# Altium integrated library Altium_WE-XTAL (rev25b).IntLib: 324 symbols (part 3 of 6)
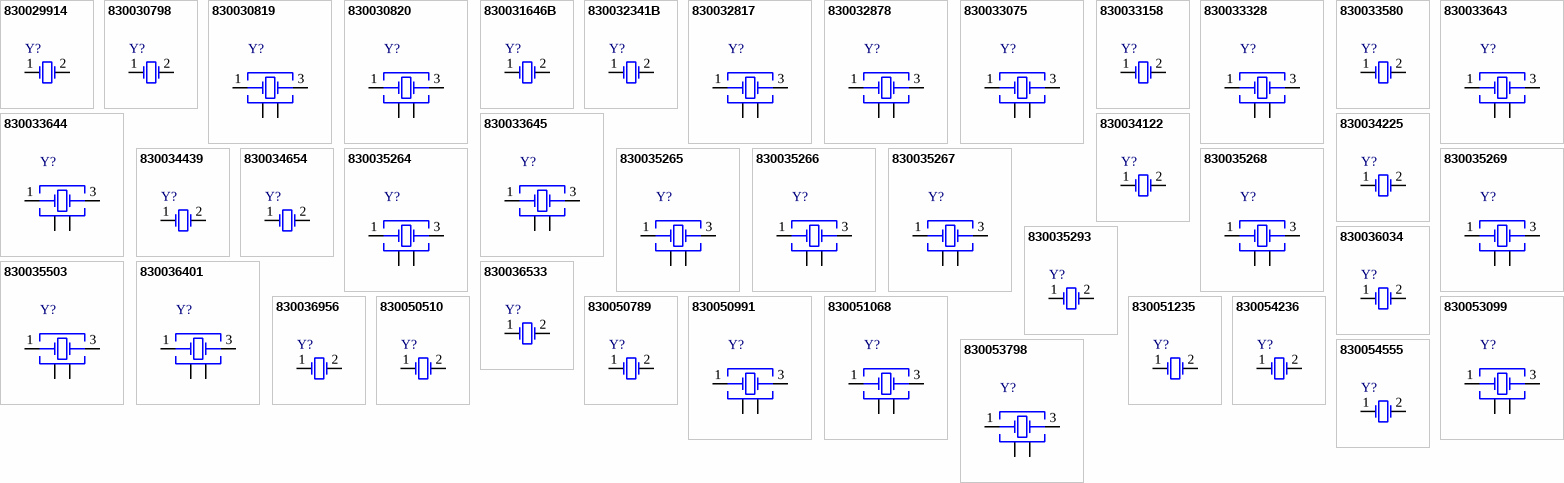
[diagram p10: symbols 830029914 to 830054555]

## 830029914
designator Y?, comment 8MHz  (value not drawn)
WE-XTAL Quartz Crystal, HC49/4HSMX, 8MHz, +/-30ppm; Manufacturer Part Number: 830029914; Manufacturer: Wurth Elektronik; Frequency Stability: 50ppm; Load Capacitance: 16pF; Category: Crystals; Match Code: WE-XTAL; ComponentLink1Description: Website Link; ComponentLink1URL: https://www.we-online.com/redexpert/article/830029914?ad; ComponentLink2Description: Datasheet Link; ComponentLink2URL: https://www.we-online.com/redexpert/spec/830029914?ad; Mount: Surface Mount; Min Operating Temperature: -40°C; Max Operating Temperature: 85°C; Packaging: Tape and Reel; Case/Size Code: HC49/4HSMX; Length: 12.4mm; Width: 4.7mm; Height: 4.5mm; Application: Processor, UART; Frequency: 8MHz; Frequency Tolerance: +/-30ppm
footprint WE-XTAL_HC49/4HSMX
pins: 1 OSC1, 2 OSC2

## 830030798
designator Y?, comment 3.6864MHz  (value not drawn)
WE-XTAL Quartz Crystal, HC49/4HSMX, 3.6864MHz, +/-30ppm; Manufacturer Part Number: 830030798; Manufacturer: Wurth Elektronik; Frequency Stability: 50ppm; Load Capacitance: 16pF; Category: Crystals; Match Code: WE-XTAL; ComponentLink1Description: Website Link; ComponentLink1URL: https://www.we-online.com/redexpert/article/830030798?ad; ComponentLink2Description: Datasheet Link; ComponentLink2URL: https://www.we-online.com/redexpert/spec/830030798?ad; Mount: Surface Mount; Min Operating Temperature: -40°C; Max Operating Temperature: 85°C; Packaging: Tape and Reel; Case/Size Code: HC49/4HSMX; Length: 12.4mm; Width: 4.7mm; Height: 4.5mm; Application: Processor, UART; Frequency: 3.6864MHz; Frequency Tolerance: +/-30ppm
footprint WE-XTAL_HC49/4HSMX
pins: 1 OSC1, 2 OSC2

## 830030819
designator Y?, comment 16MHz  (value not drawn)
WE-XTAL Quartz Crystal, CFPX-104, 16MHz, +/-50ppm; Manufacturer Part Number: 830030819; Manufacturer: Wurth Elektronik; Frequency Stability: 50ppm; Load Capacitance: 18pF; Category: Crystals; Match Code: WE-XTAL; ComponentLink1Description: Website Link; ComponentLink1URL: https://www.we-online.com/redexpert/article/830030819?ad; ComponentLink2Description: Datasheet Link; ComponentLink2URL: https://www.we-online.com/redexpert/spec/830030819?ad; Mount: Surface Mount; Min Operating Temperature: -10°C; Max Operating Temperature: 60°C; Packaging: Tape and Reel; Case/Size Code: CFPX-104; Length: 5mm; Width: 3.2mm; Height: 1mm; Application: Processor, CAN, Bluetooth; Frequency: 16MHz; Frequency Tolerance: +/-50ppm
footprint WE-XTAL_CFPX-104
pins: 1 Crystal, 2 GND & Lid, 3 Crystal, 4 GND & Lid

## 830030820
designator Y?, comment 30MHz  (value not drawn)
WE-XTAL Quartz Crystal, CFPX-104, 30MHz, +/-50ppm; Manufacturer Part Number: 830030820; Manufacturer: Wurth Elektronik; Frequency Stability: 50ppm; Load Capacitance: 18pF; Category: Crystals; Match Code: WE-XTAL; ComponentLink1Description: Website Link; ComponentLink1URL: https://www.we-online.com/redexpert/article/830030820?ad; ComponentLink2Description: Datasheet Link; ComponentLink2URL: https://www.we-online.com/redexpert/spec/830030820?ad; Mount: Surface Mount; Min Operating Temperature: -10°C; Max Operating Temperature: 60°C; Packaging: Tape and Reel; Case/Size Code: CFPX-104; Length: 5mm; Width: 3.2mm; Height: 1mm; Application: Processor, USB; Frequency: 30MHz; Frequency Tolerance: +/-50ppm
footprint WE-XTAL_CFPX-104
pins: 1 Crystal, 2 GND & Lid, 3 Crystal, 4 GND & Lid

## 830031646B
designator Y?, comment 13MHz  (value not drawn)
WE-XTAL Quartz Crystal, HC49/4H, 13MHz, +/-30ppm; Manufacturer Part Number: 830031646B; Manufacturer: Wurth Elektronik; Frequency Stability: 50ppm; Load Capacitance: 18pF; Category: Crystals; Match Code: WE-XTAL; ComponentLink1Description: Website Link; ComponentLink1URL: https://www.we-online.com/redexpert/article/830031646B?ad; ComponentLink2Description: Datasheet Link; ComponentLink2URL: https://www.we-online.com/redexpert/spec/830031646B?ad; Mount: Through Hole; Min Operating Temperature: -20°C; Max Operating Temperature: 70°C; Packaging: Bulk; Case/Size Code: HC49/4H; Length: 11.35mm; Width: 4.85mm; Height: 4mm; Application: Processor; Frequency: 13MHz; Frequency Tolerance: +/-30ppm
footprint WE-XTAL_HC49/4H
pins: 1 OSC1, 2 OSC2

## 830032341B
designator Y?, comment 10MHz  (value not drawn)
WE-XTAL Quartz Crystal, HC49/4H, 10MHz, +/-30ppm; Manufacturer Part Number: 830032341B; Manufacturer: Wurth Elektronik; Frequency Stability: 50ppm; Load Capacitance: 18pF; Category: Crystals; Match Code: WE-XTAL; ComponentLink1Description: Website Link; ComponentLink1URL: https://www.we-online.com/redexpert/article/830032341B?ad; ComponentLink2Description: Datasheet Link; ComponentLink2URL: https://www.we-online.com/redexpert/spec/830032341B?ad; Mount: Through Hole; Min Operating Temperature: -20°C; Max Operating Temperature: 70°C; Packaging: Bulk; Case/Size Code: HC49/4H; Length: 11.35mm; Width: 4.85mm; Height: 4mm; Application: Processor, Ethernet; Frequency: 10MHz; Frequency Tolerance: +/-30ppm
footprint WE-XTAL_HC49/4H
pins: 1 OSC1, 2 OSC2

## 830032817
designator Y?, comment 24MHz  (value not drawn)
WE-XTAL Quartz Crystal, CFPX-104, 24MHz, +/-50ppm; Manufacturer Part Number: 830032817; Manufacturer: Wurth Elektronik; Frequency Stability: 50ppm; Load Capacitance: 18pF; Category: Crystals; Match Code: WE-XTAL; ComponentLink1Description: Website Link; ComponentLink1URL: https://www.we-online.com/redexpert/article/830032817?ad; ComponentLink2Description: Datasheet Link; ComponentLink2URL: https://www.we-online.com/redexpert/spec/830032817?ad; Mount: Surface Mount; Min Operating Temperature: -10°C; Max Operating Temperature: 60°C; Packaging: Tape and Reel; Case/Size Code: CFPX-104; Length: 5mm; Width: 3.2mm; Height: 1mm; Application: Processor, USB, Bluetooth; Frequency: 24MHz; Frequency Tolerance: +/-50ppm
footprint WE-XTAL_CFPX-104
pins: 1 Crystal, 2 GND & Lid, 3 Crystal, 4 GND & Lid

## 830032878
designator Y?, comment 12MHz  (value not drawn)
WE-XTAL Quartz Crystal, CFPX-104, 12MHz, +/-50ppm; Manufacturer Part Number: 830032878; Manufacturer: Wurth Elektronik; Frequency Stability: 50ppm; Load Capacitance: 18pF; Category: Crystals; Match Code: WE-XTAL; ComponentLink1Description: Website Link; ComponentLink1URL: https://www.we-online.com/redexpert/article/830032878?ad; ComponentLink2Description: Datasheet Link; ComponentLink2URL: https://www.we-online.com/redexpert/spec/830032878?ad; Mount: Surface Mount; Min Operating Temperature: -10°C; Max Operating Temperature: 60°C; Packaging: Tape and Reel; Case/Size Code: CFPX-104; Length: 5mm; Width: 3.2mm; Height: 1mm; Application: Processor, USB, CAN; Frequency: 12MHz; Frequency Tolerance: +/-50ppm
footprint WE-XTAL_CFPX-104
pins: 1 Crystal, 2 GND & Lid, 3 Crystal, 4 GND & Lid

## 830033075
designator Y?, comment 25MHz  (value not drawn)
WE-XTAL Quartz Crystal, CFPX-104, 25MHz, +/-50ppm; Manufacturer Part Number: 830033075; Manufacturer: Wurth Elektronik; Frequency Stability: 50ppm; Load Capacitance: 18pF; Category: Crystals; Match Code: WE-XTAL; ComponentLink1Description: Website Link; ComponentLink1URL: https://www.we-online.com/redexpert/article/830033075?ad; ComponentLink2Description: Datasheet Link; ComponentLink2URL: https://www.we-online.com/redexpert/spec/830033075?ad; Mount: Surface Mount; Min Operating Temperature: -10°C; Max Operating Temperature: 60°C; Packaging: Tape and Reel; Case/Size Code: CFPX-104; Length: 5mm; Width: 3.2mm; Height: 1mm; Application: Processor, USB, 3G/4G/5G, Ethernet, Small Cell, PHY, PCI Express; Frequency: 25MHz; Frequency Tolerance: +/-50ppm
footprint WE-XTAL_CFPX-104
pins: 1 Crystal, 2 GND & Lid, 3 Crystal, 4 GND & Lid

## 830033158
designator Y?, comment 3.6864MHz  (value not drawn)
WE-XTAL Quartz Crystal, HC49/4HSMX, 3.6864MHz, +/-30ppm; Manufacturer Part Number: 830033158; Manufacturer: Wurth Elektronik; Frequency Stability: 50ppm; Load Capacitance: 18pF; Category: Crystals; Match Code: WE-XTAL; ComponentLink1Description: Website Link; ComponentLink1URL: https://www.we-online.com/redexpert/article/830033158?ad; ComponentLink2Description: Datasheet Link; ComponentLink2URL: https://www.we-online.com/redexpert/spec/830033158?ad; Mount: Surface Mount; Min Operating Temperature: -20°C; Max Operating Temperature: 70°C; Packaging: Tape and Reel; Case/Size Code: HC49/4HSMX; Length: 12.4mm; Width: 4.7mm; Height: 4.5mm; Application: Processor, UART; Frequency: 3.6864MHz; Frequency Tolerance: +/-30ppm
footprint WE-XTAL_HC49/4HSMX
pins: 1 OSC1, 2 OSC2

## 830033328
designator Y?, comment 14.7456MHz  (value not drawn)
WE-XTAL Quartz Crystal, CFPX-104, 14.7456MHz, +/-50ppm; Manufacturer Part Number: 830033328; Manufacturer: Wurth Elektronik; Frequency Stability: 50ppm; Load Capacitance: 18pF; Category: Crystals; Match Code: WE-XTAL; ComponentLink1Description: Website Link; ComponentLink1URL: https://www.we-online.com/redexpert/article/830033328?ad; ComponentLink2Description: Datasheet Link; ComponentLink2URL: https://www.we-online.com/redexpert/spec/830033328?ad; Mount: Surface Mount; Min Operating Temperature: -10°C; Max Operating Temperature: 60°C; Packaging: Tape and Reel; Case/Size Code: CFPX-104; Length: 5mm; Width: 3.2mm; Height: 1mm; Application: UART; Frequency: 14.7456MHz; Frequency Tolerance: +/-50ppm
footprint WE-XTAL_CFPX-104
pins: 1 Crystal, 2 GND & Lid, 3 Crystal, 4 GND & Lid

## 830033580
designator Y?, comment 12MHz  (value not drawn)
WE-XTAL Quartz Crystal, HC49/4HSMX, 12MHz, +/-30ppm; Manufacturer Part Number: 830033580; Manufacturer: Wurth Elektronik; Frequency Stability: 50ppm; Load Capacitance: 18pF; Category: Crystals; Match Code: WE-XTAL; ComponentLink1Description: Website Link; ComponentLink1URL: https://www.we-online.com/redexpert/article/830033580?ad; ComponentLink2Description: Datasheet Link; ComponentLink2URL: https://www.we-online.com/redexpert/spec/830033580?ad; Mount: Surface Mount; Min Operating Temperature: -20°C; Max Operating Temperature: 70°C; Packaging: Tape and Reel; Case/Size Code: HC49/4HSMX; Length: 12.4mm; Width: 4.7mm; Height: 4.5mm; Application: Processor, USB, CAN; Frequency: 12MHz; Frequency Tolerance: +/-30ppm
footprint WE-XTAL_HC49/4HSMX
pins: 1 OSC1, 2 OSC2

## 830033643
designator Y?, comment 14.31818MHz  (value not drawn)
WE-XTAL Quartz Crystal, CFPX-104, 14.31818MHz, +/-50ppm; Manufacturer Part Number: 830033643; Manufacturer: Wurth Elektronik; Frequency Stability: 50ppm; Load Capacitance: 18pF; Category: Crystals; Match Code: WE-XTAL; ComponentLink1Description: Website Link; ComponentLink1URL: https://www.we-online.com/redexpert/article/830033643?ad; ComponentLink2Description: Datasheet Link; ComponentLink2URL: https://www.we-online.com/redexpert/spec/830033643?ad; Mount: Surface Mount; Min Operating Temperature: -10°C; Max Operating Temperature: 60°C; Packaging: Tape and Reel; Case/Size Code: CFPX-104; Length: 5mm; Width: 3.2mm; Height: 1mm; Application: Processor; Frequency: 14.31818MHz; Frequency Tolerance: +/-50ppm
footprint WE-XTAL_CFPX-104
pins: 1 Crystal, 2 GND & Lid, 3 Crystal, 4 GND & Lid

## 830033644
designator Y?, comment 24.576MHz  (value not drawn)
WE-XTAL Quartz Crystal, CFPX-104, 24.576MHz, +/-50ppm; Manufacturer Part Number: 830033644; Manufacturer: Wurth Elektronik; Frequency Stability: 50ppm; Load Capacitance: 18pF; Category: Crystals; Match Code: WE-XTAL; ComponentLink1Description: Website Link; ComponentLink1URL: https://www.we-online.com/redexpert/article/830033644?ad; ComponentLink2Description: Datasheet Link; ComponentLink2URL: https://www.we-online.com/redexpert/spec/830033644?ad; Mount: Surface Mount; Min Operating Temperature: -10°C; Max Operating Temperature: 60°C; Packaging: Tape and Reel; Case/Size Code: CFPX-104; Length: 5mm; Width: 3.2mm; Height: 1mm; Application: UART, Audio; Frequency: 24.576MHz; Frequency Tolerance: +/-50ppm
footprint WE-XTAL_CFPX-104
pins: 1 Crystal, 2 GND & Lid, 3 Crystal, 4 GND & Lid

## 830033645
designator Y?, comment 40MHz  (value not drawn)
WE-XTAL Quartz Crystal, CFPX-104, 40MHz, +/-50ppm; Manufacturer Part Number: 830033645; Manufacturer: Wurth Elektronik; Frequency Stability: 50ppm; Load Capacitance: 18pF; Category: Crystals; Match Code: WE-XTAL; ComponentLink1Description: Website Link; ComponentLink1URL: https://www.we-online.com/redexpert/article/830033645?ad; ComponentLink2Description: Datasheet Link; ComponentLink2URL: https://www.we-online.com/redexpert/spec/830033645?ad; Mount: Surface Mount; Min Operating Temperature: -10°C; Max Operating Temperature: 60°C; Packaging: Tape and Reel; Case/Size Code: CFPX-104; Length: 5mm; Width: 3.2mm; Height: 1mm; Application: Processor, USB, 3G/4G/5G, CAN, Wi-Fi; Frequency: 40MHz; Frequency Tolerance: +/-50ppm
footprint WE-XTAL_CFPX-104
pins: 1 Crystal, 2 GND & Lid, 3 Crystal, 4 GND & Lid

## 830034122
designator Y?, comment 16MHz  (value not drawn)
WE-XTAL Quartz Crystal, HC49/4HSMX, 16MHz, +/-20ppm; Manufacturer Part Number: 830034122; Manufacturer: Wurth Elektronik; Frequency Stability: 20ppm; Load Capacitance: 12pF; Category: Crystals; Match Code: WE-XTAL; ComponentLink1Description: Website Link; ComponentLink1URL: https://www.we-online.com/redexpert/article/830034122?ad; ComponentLink2Description: Datasheet Link; ComponentLink2URL: https://www.we-online.com/redexpert/spec/830034122?ad; Mount: Surface Mount; Min Operating Temperature: -20°C; Max Operating Temperature: 70°C; Packaging: Tape and Reel; Case/Size Code: HC49/4HSMX; Length: 12.4mm; Width: 4.7mm; Height: 4.5mm; Application: Processor, CAN, Bluetooth; Frequency: 16MHz; Frequency Tolerance: +/-20ppm
footprint WE-XTAL_HC49/4HSMX
pins: 1 OSC1, 2 OSC2

## 830034225
designator Y?, comment 20MHz  (value not drawn)
WE-XTAL Quartz Crystal, HC49/4HSMX, 20MHz, +/-50ppm; Manufacturer Part Number: 830034225; Manufacturer: Wurth Elektronik; Frequency Stability: 50ppm; Load Capacitance: 16pF; Category: Crystals; Match Code: WE-XTAL; ComponentLink1Description: Website Link; ComponentLink1URL: https://www.we-online.com/redexpert/article/830034225?ad; ComponentLink2Description: Datasheet Link; ComponentLink2URL: https://www.we-online.com/redexpert/spec/830034225?ad; Mount: Surface Mount; Min Operating Temperature: -30°C; Max Operating Temperature: 80°C; Packaging: Tape and Reel; Case/Size Code: HC49/4HSMX; Length: 12.4mm; Width: 4.7mm; Height: 4.5mm; Application: Processor, CAN, USB, Ethernet, Wi-Fi; Frequency: 20MHz; Frequency Tolerance: +/-50ppm
footprint WE-XTAL_HC49/4HSMX
pins: 1 OSC1, 2 OSC2

## 830034439
designator Y?, comment 4.9152MHz  (value not drawn)
WE-XTAL Quartz Crystal, HC49/4HSMX, 4.9152MHz, +/-30ppm; Manufacturer Part Number: 830034439; Manufacturer: Wurth Elektronik; Frequency Stability: 50ppm; Load Capacitance: 16pF; Category: Crystals; Match Code: WE-XTAL; ComponentLink1Description: Website Link; ComponentLink1URL: https://www.we-online.com/redexpert/article/830034439?ad; ComponentLink2Description: Datasheet Link; ComponentLink2URL: https://www.we-online.com/redexpert/spec/830034439?ad; Mount: Surface Mount; Min Operating Temperature: -20°C; Max Operating Temperature: 70°C; Packaging: Tape and Reel; Case/Size Code: HC49/4HSMX; Length: 12.4mm; Width: 4.7mm; Height: 4.5mm; Application: UART; Frequency: 4.9152MHz; Frequency Tolerance: +/-30ppm
footprint WE-XTAL_HC49/4HSMX
pins: 1 OSC1, 2 OSC2

## 830034654
designator Y?, comment 4MHz  (value not drawn)
WE-XTAL Quartz Crystal, HC49/4HSMX, 4MHz, +/-20ppm; Manufacturer Part Number: 830034654; Manufacturer: Wurth Elektronik; Frequency Stability: 50ppm; Load Capacitance: 18pF; Category: Crystals; Match Code: WE-XTAL; ComponentLink1Description: Website Link; ComponentLink1URL: https://www.we-online.com/redexpert/article/830034654?ad; ComponentLink2Description: Datasheet Link; ComponentLink2URL: https://www.we-online.com/redexpert/spec/830034654?ad; Mount: Surface Mount; Min Operating Temperature: -20°C; Max Operating Temperature: 70°C; Packaging: Tape and Reel; Case/Size Code: HC49/4HSMX; Length: 12.4mm; Width: 4.7mm; Height: 4.5mm; Application: CAN, Processor; Frequency: 4MHz; Frequency Tolerance: +/-20ppm
footprint WE-XTAL_HC49/4HSMX
pins: 1 OSC1, 2 OSC2

## 830035264
designator Y?, comment 16MHz  (value not drawn)
WE-XTAL Quartz Crystal, CFPX-180, 16MHz, +/-50ppm; Manufacturer Part Number: 830035264; Manufacturer: Wurth Elektronik; Frequency Stability: 50ppm; Load Capacitance: 16pF; Category: Crystals; Match Code: WE-XTAL; ComponentLink1Description: Website Link; ComponentLink1URL: https://www.we-online.com/redexpert/article/830035264?ad; ComponentLink2Description: Datasheet Link; ComponentLink2URL: https://www.we-online.com/redexpert/spec/830035264?ad; Mount: Surface Mount; Min Operating Temperature: -10°C; Max Operating Temperature: 60°C; Packaging: Tape and Reel; Case/Size Code: CFPX-180; Length: 3.2mm; Width: 2.5mm; Height: 0.8mm; Application: Processor, CAN, Bluetooth; Frequency: 16MHz; Frequency Tolerance: +/-50ppm
footprint WE-XTAL_CFPX-180
pins: 1 Crystal, 2 GND&Lid, 3 Crystal, 4 GND&Lid

## 830035265
designator Y?, comment 20MHz  (value not drawn)
WE-XTAL Quartz Crystal, CFPX-180, 20MHz, +/-50ppm; Manufacturer Part Number: 830035265; Manufacturer: Wurth Elektronik; Frequency Stability: 50ppm; Load Capacitance: 16pF; Category: Crystals; Match Code: WE-XTAL; ComponentLink1Description: Website Link; ComponentLink1URL: https://www.we-online.com/redexpert/article/830035265?ad; ComponentLink2Description: Datasheet Link; ComponentLink2URL: https://www.we-online.com/redexpert/spec/830035265?ad; Mount: Surface Mount; Min Operating Temperature: -10°C; Max Operating Temperature: 60°C; Packaging: Tape and Reel; Case/Size Code: CFPX-180; Length: 3.2mm; Width: 2.5mm; Height: 0.8mm; Application: Processor, CAN, USB, Ethernet, Wi-Fi; Frequency: 20MHz; Frequency Tolerance: +/-50ppm
footprint WE-XTAL_CFPX-180
pins: 1 Crystal, 2 GND&Lid, 3 Crystal, 4 GND&Lid

## 830035266
designator Y?, comment 24MHz  (value not drawn)
WE-XTAL Quartz Crystal, CFPX-180, 24MHz, +/-50ppm; Manufacturer Part Number: 830035266; Manufacturer: Wurth Elektronik; Frequency Stability: 50ppm; Load Capacitance: 16pF; Category: Crystals; Match Code: WE-XTAL; ComponentLink1Description: Website Link; ComponentLink1URL: https://www.we-online.com/redexpert/article/830035266?ad; ComponentLink2Description: Datasheet Link; ComponentLink2URL: https://www.we-online.com/redexpert/spec/830035266?ad; Mount: Surface Mount; Min Operating Temperature: -10°C; Max Operating Temperature: 60°C; Packaging: Tape and Reel; Case/Size Code: CFPX-180; Length: 3.2mm; Width: 2.5mm; Height: 0.8mm; Application: Processor, USB, Bluetooth; Frequency: 24MHz; Frequency Tolerance: +/-50ppm
footprint WE-XTAL_CFPX-180
pins: 1 Crystal, 2 GND&Lid, 3 Crystal, 4 GND&Lid

## 830035267
designator Y?, comment 24.576MHz  (value not drawn)
WE-XTAL Quartz Crystal, CFPX-180, 24.576MHz, +/-50ppm; Manufacturer Part Number: 830035267; Manufacturer: Wurth Elektronik; Frequency Stability: 50ppm; Load Capacitance: 16pF; Category: Crystals; Match Code: WE-XTAL; ComponentLink1Description: Website Link; ComponentLink1URL: https://www.we-online.com/redexpert/article/830035267?ad; ComponentLink2Description: Datasheet Link; ComponentLink2URL: https://www.we-online.com/redexpert/spec/830035267?ad; Mount: Surface Mount; Min Operating Temperature: -10°C; Max Operating Temperature: 60°C; Packaging: Tape and Reel; Case/Size Code: CFPX-180; Length: 3.2mm; Width: 2.5mm; Height: 0.8mm; Application: UART, Audio; Frequency: 24.576MHz; Frequency Tolerance: +/-50ppm
footprint WE-XTAL_CFPX-180
pins: 1 Crystal, 2 GND&Lid, 3 Crystal, 4 GND&Lid

## 830035268
designator Y?, comment 25MHz  (value not drawn)
WE-XTAL Quartz Crystal, CFPX-180, 25MHz, +/-50ppm; Manufacturer Part Number: 830035268; Manufacturer: Wurth Elektronik; Frequency Stability: 50ppm; Load Capacitance: 16pF; Category: Crystals; Match Code: WE-XTAL; ComponentLink1Description: Website Link; ComponentLink1URL: https://www.we-online.com/redexpert/article/830035268?ad; ComponentLink2Description: Datasheet Link; ComponentLink2URL: https://www.we-online.com/redexpert/spec/830035268?ad; Mount: Surface Mount; Min Operating Temperature: -10°C; Max Operating Temperature: 60°C; Packaging: Tape and Reel; Case/Size Code: CFPX-180; Length: 3.2mm; Width: 2.5mm; Height: 0.8mm; Application: Processor, USB, 3G/4G/5G, Ethernet, Small Cell, PHY, PCI Express; Frequency: 25MHz; Frequency Tolerance: +/-50ppm
footprint WE-XTAL_CFPX-180
pins: 1 Crystal, 2 GND&Lid, 3 Crystal, 4 GND&Lid

## 830035269
designator Y?, comment 30MHz  (value not drawn)
WE-XTAL Quartz Crystal, CFPX-180, 30MHz, +/-50ppm; Manufacturer Part Number: 830035269; Manufacturer: Wurth Elektronik; Frequency Stability: 50ppm; Load Capacitance: 16pF; Category: Crystals; Match Code: WE-XTAL; ComponentLink1Description: Website Link; ComponentLink1URL: https://www.we-online.com/redexpert/article/830035269?ad; ComponentLink2Description: Datasheet Link; ComponentLink2URL: https://www.we-online.com/redexpert/spec/830035269?ad; Mount: Surface Mount; Min Operating Temperature: -10°C; Max Operating Temperature: 60°C; Packaging: Tape and Reel; Case/Size Code: CFPX-180; Length: 3.2mm; Width: 2.5mm; Height: 0.8mm; Application: Processor, USB; Frequency: 30MHz; Frequency Tolerance: +/-50ppm
footprint WE-XTAL_CFPX-180
pins: 1 Crystal, 2 GND&Lid, 3 Crystal, 4 GND&Lid

## 830035293
designator Y?, comment 12MHz  (value not drawn)
WE-XTAL Quartz Crystal, HC49/4HSMX, 12MHz, +/-30ppm; Manufacturer Part Number: 830035293; Manufacturer: Wurth Elektronik; Frequency Stability: 50ppm; Load Capacitance: 16pF; Category: Crystals; Match Code: WE-XTAL; ComponentLink1Description: Website Link; ComponentLink1URL: https://www.we-online.com/redexpert/article/830035293?ad; ComponentLink2Description: Datasheet Link; ComponentLink2URL: https://www.we-online.com/redexpert/spec/830035293?ad; Mount: Surface Mount; Min Operating Temperature: -40°C; Max Operating Temperature: 85°C; Packaging: Tape and Reel; Case/Size Code: HC49/4HSMX; Length: 12.4mm; Width: 4.7mm; Height: 4.5mm; Application: Processor, USB, CAN; Frequency: 12MHz; Frequency Tolerance: +/-30ppm
footprint WE-XTAL_HC49/4HSMX
pins: 1 OSC1, 2 OSC2

## 830035503
designator Y?, comment 16.384MHz  (value not drawn)
WE-XTAL Quartz Crystal, CFPX-180, 16.384MHz, +/-50ppm; Manufacturer Part Number: 830035503; Manufacturer: Wurth Elektronik; Frequency Stability: 50ppm; Load Capacitance: 16pF; Category: Crystals; Match Code: WE-XTAL; ComponentLink1Description: Website Link; ComponentLink1URL: https://www.we-online.com/redexpert/article/830035503?ad; ComponentLink2Description: Datasheet Link; ComponentLink2URL: https://www.we-online.com/redexpert/spec/830035503?ad; Mount: Surface Mount; Min Operating Temperature: -10°C; Max Operating Temperature: 60°C; Packaging: Tape and Reel; Case/Size Code: CFPX-180; Length: 3.2mm; Width: 2.5mm; Height: 0.8mm; Application: Audio, GPS; Frequency: 16.384MHz; Frequency Tolerance: +/-50ppm
footprint WE-XTAL_CFPX-180
pins: 1 Crystal, 2 GND&Lid, 3 Crystal, 4 GND&Lid

## 830036034
designator Y?, comment 16MHz  (value not drawn)
WE-XTAL Quartz Crystal, HC49/4HSMX, 16MHz, +/-30ppm; Manufacturer Part Number: 830036034; Manufacturer: Wurth Elektronik; Frequency Stability: 50ppm; Load Capacitance: 16pF; Category: Crystals; Match Code: WE-XTAL; ComponentLink1Description: Website Link; ComponentLink1URL: https://www.we-online.com/redexpert/article/830036034?ad; ComponentLink2Description: Datasheet Link; ComponentLink2URL: https://www.we-online.com/redexpert/spec/830036034?ad; Mount: Surface Mount; Min Operating Temperature: -40°C; Max Operating Temperature: 85°C; Packaging: Tape and Reel; Case/Size Code: HC49/4HSMX; Length: 12.4mm; Width: 4.7mm; Height: 4.5mm; Application: Processor, CAN, Bluetooth; Frequency: 16MHz; Frequency Tolerance: +/-30ppm
footprint WE-XTAL_HC49/4HSMX
pins: 1 OSC1, 2 OSC2

## 830036401
designator Y?, comment 12MHz  (value not drawn)
WE-XTAL Quartz Crystal, CFPX-104, 12MHz, +/-20ppm; Manufacturer Part Number: 830036401; Manufacturer: Wurth Elektronik; Frequency Stability: 50ppm; Load Capacitance: 18pF; Category: Crystals; Match Code: WE-XTAL; ComponentLink1Description: Website Link; ComponentLink1URL: https://www.we-online.com/redexpert/article/830036401?ad; ComponentLink2Description: Datasheet Link; ComponentLink2URL: https://www.we-online.com/redexpert/spec/830036401?ad; Mount: Surface Mount; Min Operating Temperature: -20°C; Max Operating Temperature: 70°C; Packaging: Tape and Reel; Case/Size Code: CFPX-104; Length: 5mm; Width: 3.2mm; Height: 1mm; Application: Processor, USB, CAN; Frequency: 12MHz; Frequency Tolerance: +/-20ppm
footprint WE-XTAL_CFPX-104
pins: 1 Crystal, 2 GND & Lid, 3 Crystal, 4 GND & Lid

## 830036533
designator Y?, comment 24MHz  (value not drawn)
WE-XTAL Quartz Crystal, HC49/4HSMX, 24MHz, +/-30ppm; Manufacturer Part Number: 830036533; Manufacturer: Wurth Elektronik; Frequency Stability: 50ppm; Load Capacitance: 18pF; Category: Crystals; Match Code: WE-XTAL; ComponentLink1Description: Website Link; ComponentLink1URL: https://www.we-online.com/redexpert/article/830036533?ad; ComponentLink2Description: Datasheet Link; ComponentLink2URL: https://www.we-online.com/redexpert/spec/830036533?ad; Mount: Surface Mount; Min Operating Temperature: -40°C; Max Operating Temperature: 85°C; Packaging: Tape and Reel; Case/Size Code: HC49/4HSMX; Length: 12.4mm; Width: 4.7mm; Height: 4.5mm; Application: Processor, USB, Bluetooth; Frequency: 24MHz; Frequency Tolerance: +/-30ppm
footprint WE-XTAL_HC49/4HSMX
pins: 1 OSC1, 2 OSC2

## 830036956
designator Y?, comment 14.7456MHz  (value not drawn)
WE-XTAL Quartz Crystal, HC49/4HSMX, 14.7456MHz, +/-30ppm; Manufacturer Part Number: 830036956; Manufacturer: Wurth Elektronik; Frequency Stability: 50ppm; Load Capacitance: 16pF; Category: Crystals; Match Code: WE-XTAL; ComponentLink1Description: Website Link; ComponentLink1URL: https://www.we-online.com/redexpert/article/830036956?ad; ComponentLink2Description: Datasheet Link; ComponentLink2URL: https://www.we-online.com/redexpert/spec/830036956?ad; Mount: Surface Mount; Min Operating Temperature: -20°C; Max Operating Temperature: 70°C; Packaging: Tape and Reel; Case/Size Code: HC49/4HSMX; Length: 12.4mm; Width: 4.7mm; Height: 4.5mm; Application: UART; Frequency: 14.7456MHz; Frequency Tolerance: +/-30ppm
footprint WE-XTAL_HC49/4HSMX
pins: 1 OSC1, 2 OSC2

## 830050510
designator Y?, comment 8MHz  (value not drawn)
WE-XTAL Quartz Crystal, HC49/4HSMX, 8MHz, +/-30ppm; Manufacturer Part Number: 830050510; Manufacturer: Wurth Elektronik; Frequency Stability: 50ppm; Load Capacitance: 18pF; Category: Crystals; Match Code: WE-XTAL; ComponentLink1Description: Website Link; ComponentLink1URL: https://www.we-online.com/redexpert/article/830050510?ad; ComponentLink2Description: Datasheet Link; ComponentLink2URL: https://www.we-online.com/redexpert/spec/830050510?ad; Mount: Surface Mount; Min Operating Temperature: -40°C; Max Operating Temperature: 85°C; Packaging: Tape and Reel; Case/Size Code: HC49/4HSMX; Length: 12.4mm; Width: 4.7mm; Height: 4.5mm; Application: Processor, UART; Frequency: 8MHz; Frequency Tolerance: +/-30ppm
footprint WE-XTAL_HC49/4HSMX
pins: 1 OSC1, 2 OSC2

## 830050789
designator Y?, comment 32.768kHz  (value not drawn)
WE-XTAL Watch Crystal, IQXC-25, 32.768kHz, +/-20ppm; Manufacturer Part Number: 830050789; Manufacturer: Wurth Elektronik; Load Capacitance: 12.5pF; Category: Crystals; Match Code: WE-XTAL; ComponentLink1Description: Website Link; ComponentLink1URL: https://www.we-online.com/redexpert/article/830050789?ad; ComponentLink2Description: Datasheet Link; ComponentLink2URL: https://www.we-online.com/redexpert/spec/830050789?ad; Mount: Surface Mount; Min Operating Temperature: -40°C; Max Operating Temperature: 85°C; Packaging: Tape and Reel; Case/Size Code: IQXC-25; Length: 2mm; Width: 1.2mm; Height: 0.6mm; Application: Real Time Clock; Frequency: 32.768kHz; Frequency Tolerance: +/-20ppm
footprint WE-XTAL_IQXC-25
pins: 1 OSC1, 2 OSC2

## 830050991
designator Y?, comment 26MHz  (value not drawn)
WE-XTAL Quartz Crystal, CFPX-218, 26MHz, +/-20ppm; Manufacturer Part Number: 830050991; Manufacturer: Wurth Elektronik; Frequency Stability: 20ppm; Load Capacitance: 10pF; Category: Crystals; Match Code: WE-XTAL; ComponentLink1Description: Website Link; ComponentLink1URL: https://www.we-online.com/redexpert/article/830050991?ad; ComponentLink2Description: Datasheet Link; ComponentLink2URL: https://www.we-online.com/redexpert/spec/830050991?ad; Mount: Surface Mount; Min Operating Temperature: -40°C; Max Operating Temperature: 85°C; Packaging: Tape and Reel; Case/Size Code: CFPX-218; Length: 2.5mm; Width: 2mm; Height: 0.65mm; Application: CAN, Bluetooth, GPS, Small Cell; Frequency: 26MHz; Frequency Tolerance: +/-20ppm
footprint WE-XTAL_CFPX-218
pins: 1 Crystal, 2 GND, 3 Crystal, 4 GND

## 830051068
designator Y?, comment 25MHz  (value not drawn)
WE-XTAL Quartz Crystal, CFPX-180, 25MHz, +/-10ppm; Manufacturer Part Number: 830051068; Manufacturer: Wurth Elektronik; Frequency Stability: 10ppm; Load Capacitance: 9pF; Category: Crystals; Match Code: WE-XTAL; ComponentLink1Description: Website Link; ComponentLink1URL: https://www.we-online.com/redexpert/article/830051068?ad; ComponentLink2Description: Datasheet Link; ComponentLink2URL: https://www.we-online.com/redexpert/spec/830051068?ad; Mount: Surface Mount; Min Operating Temperature: -20°C; Max Operating Temperature: 70°C; Packaging: Tape and Reel; Case/Size Code: CFPX-180; Length: 3.2mm; Width: 2.5mm; Height: 0.8mm; Application: Processor, USB, 3G/4G/5G, Ethernet, Small Cell, PHY, PCI Express; Frequency: 25MHz; Frequency Tolerance: +/-10ppm
footprint WE-XTAL_CFPX-180
pins: 1 Crystal, 2 GND&Lid, 3 Crystal, 4 GND&Lid

## 830051235
designator Y?, comment 16MHz  (value not drawn)
WE-XTAL Quartz Crystal, HC49/4HSMX, 16MHz, +/-30ppm; Manufacturer Part Number: 830051235; Manufacturer: Wurth Elektronik; Frequency Stability: 50ppm; Load Capacitance: 18pF; Category: Crystals; Match Code: WE-XTAL; ComponentLink1Description: Website Link; ComponentLink1URL: https://www.we-online.com/redexpert/article/830051235?ad; ComponentLink2Description: Datasheet Link; ComponentLink2URL: https://www.we-online.com/redexpert/spec/830051235?ad; Mount: Surface Mount; Min Operating Temperature: -40°C; Max Operating Temperature: 85°C; Packaging: Tape and Reel; Case/Size Code: HC49/4HSMX; Length: 12.4mm; Width: 4.7mm; Height: 4.5mm; Application: Processor, CAN, Bluetooth; Frequency: 16MHz; Frequency Tolerance: +/-30ppm
footprint WE-XTAL_HC49/4HSMX
pins: 1 OSC1, 2 OSC2

## 830053099
designator Y?, comment 27.12MHz  (value not drawn)
WE-XTAL Quartz Crystal, CFPX-180, 27.12MHz, +/-10ppm; Manufacturer Part Number: 830053099; Manufacturer: Wurth Elektronik; Frequency Stability: 10ppm; Load Capacitance: 10pF; Category: Crystals; Match Code: WE-XTAL; ComponentLink1Description: Website Link; ComponentLink1URL: https://www.we-online.com/redexpert/article/830053099?ad; ComponentLink2Description: Datasheet Link; ComponentLink2URL: https://www.we-online.com/redexpert/spec/830053099?ad; Mount: Surface Mount; Min Operating Temperature: -20°C; Max Operating Temperature: 70°C; Packaging: Tape and Reel; Case/Size Code: CFPX-180; Length: 3.2mm; Width: 2.5mm; Height: 0.8mm; Application: NFC, RFID; Frequency: 27.12MHz; Frequency Tolerance: +/-10ppm
footprint WE-XTAL_CFPX-180
pins: 1 Crystal, 2 GND&Lid, 3 Crystal, 4 GND&Lid

## 830053798
designator Y?, comment 24MHz  (value not drawn)
WE-XTAL Quartz Crystal, CFPX-104, 24MHz, +/-10ppm; Manufacturer Part Number: 830053798; Manufacturer: Wurth Elektronik; Frequency Stability: 25ppm; Load Capacitance: 18pF; Category: Crystals; Match Code: WE-XTAL; ComponentLink1Description: Website Link; ComponentLink1URL: https://www.we-online.com/redexpert/article/830053798?ad; ComponentLink2Description: Datasheet Link; ComponentLink2URL: https://www.we-online.com/redexpert/spec/830053798?ad; Mount: Surface Mount; Min Operating Temperature: -40°C; Max Operating Temperature: 85°C; Packaging: Tape and Reel; Case/Size Code: CFPX-104; Length: 5mm; Width: 3.2mm; Height: 1mm; Application: Processor, USB, Bluetooth; Frequency: 24MHz; Frequency Tolerance: +/-10ppm
footprint WE-XTAL_CFPX-104
pins: 1 Crystal, 2 GND & Lid, 3 Crystal, 4 GND & Lid

## 830054236
designator Y?, comment 32.768kHz  (value not drawn)
WE-XTAL Watch Crystal, CFPX-217, 32.768kHz, +/-20ppm; Manufacturer Part Number: 830054236; Manufacturer: Wurth Elektronik; Load Capacitance: 6pF; Category: Crystals; Match Code: WE-XTAL; ComponentLink1Description: Website Link; ComponentLink1URL: https://www.we-online.com/redexpert/article/830054236?ad; ComponentLink2Description: Datasheet Link; ComponentLink2URL: https://www.we-online.com/redexpert/spec/830054236?ad; Mount: Surface Mount; Min Operating Temperature: -40°C; Max Operating Temperature: 85°C; Packaging: Tape and Reel; Case/Size Code: CFPX-217; Length: 3.2mm; Width: 1.5mm; Height: 0.9mm; Application: Real Time Clock; Frequency: 32.768kHz; Frequency Tolerance: +/-20ppm
footprint WE-XTAL_CFPX-217
pins: 1 OSC1, 2 OSC2

## 830054555
designator Y?, comment 25MHz  (value not drawn)
WE-XTAL Quartz Crystal, HC49/4HSMX, 25MHz, +/-20ppm; Manufacturer Part Number: 830054555; Manufacturer: Wurth Elektronik; Frequency Stability: 20ppm; Load Capacitance: 20pF; Category: Crystals; Match Code: WE-XTAL; ComponentLink1Description: Website Link; ComponentLink1URL: https://www.we-online.com/redexpert/article/830054555?ad; ComponentLink2Description: Datasheet Link; ComponentLink2URL: https://www.we-online.com/redexpert/spec/830054555?ad; Mount: Surface Mount; Min Operating Temperature: -40°C; Max Operating Temperature: 85°C; Packaging: Tape and Reel; Case/Size Code: HC49/4HSMX; Length: 12.4mm; Width: 4.7mm; Height: 4.5mm; Application: Processor, USB, 3G/4G/5G, Ethernet, Small Cell, PHY, PCI Express; Frequency: 25MHz; Frequency Tolerance: +/-20ppm
footprint WE-XTAL_HC49/4HSMX
pins: 1 OSC1, 2 OSC2

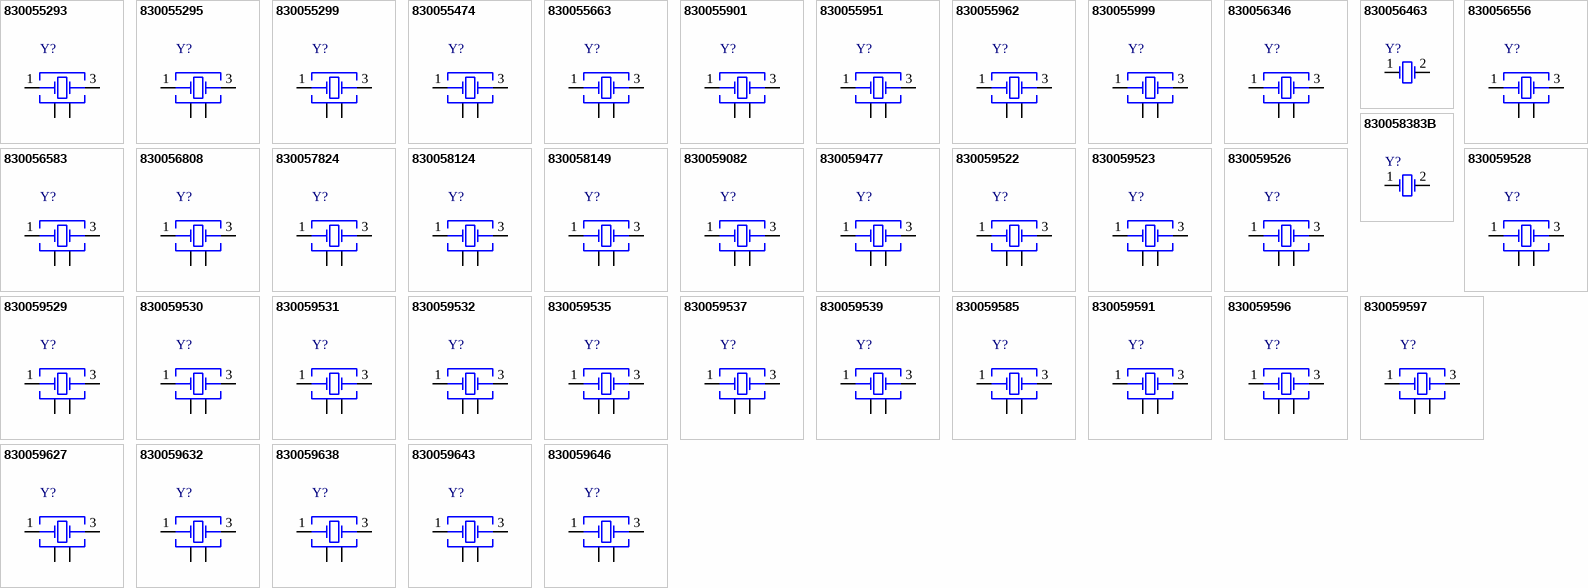
[diagram p4: symbols 830055293 to 830059646]

## 830055293
designator Y?, comment 14.7456MHz  (value not drawn)
WE-XTAL Quartz Crystal, CFPX-180, 14.7456MHz, +/-20ppm; Manufacturer Part Number: 830055293; Manufacturer: Wurth Elektronik; Frequency Stability: 30ppm; Load Capacitance: 18pF; Category: Crystals; Match Code: WE-XTAL; ComponentLink1Description: Website Link; ComponentLink1URL: https://www.we-online.com/redexpert/article/830055293?ad; ComponentLink2Description: Datasheet Link; ComponentLink2URL: https://www.we-online.com/redexpert/spec/830055293?ad; Mount: Surface Mount; Min Operating Temperature: -40°C; Max Operating Temperature: 85°C; Packaging: Tape and Reel; Case/Size Code: CFPX-180; Length: 3.2mm; Width: 2.5mm; Height: 0.8mm; Application: UART; Frequency: 14.7456MHz; Frequency Tolerance: +/-20ppm
footprint WE-XTAL_CFPX-180
pins: 1 Crystal, 2 GND&Lid, 3 Crystal, 4 GND&Lid

## 830055295
designator Y?, comment 12MHz  (value not drawn)
WE-XTAL Quartz Crystal, CFPX-180, 12MHz, +/-20ppm; Manufacturer Part Number: 830055295; Manufacturer: Wurth Elektronik; Frequency Stability: 30ppm; Load Capacitance: 18pF; Category: Crystals; Match Code: WE-XTAL; ComponentLink1Description: Website Link; ComponentLink1URL: https://www.we-online.com/redexpert/article/830055295?ad; ComponentLink2Description: Datasheet Link; ComponentLink2URL: https://www.we-online.com/redexpert/spec/830055295?ad; Mount: Surface Mount; Min Operating Temperature: -40°C; Max Operating Temperature: 85°C; Packaging: Tape and Reel; Case/Size Code: CFPX-180; Length: 3.2mm; Width: 2.5mm; Height: 0.8mm; Application: Processor, USB, CAN; Frequency: 12MHz; Frequency Tolerance: +/-20ppm
footprint WE-XTAL_CFPX-180
pins: 1 Crystal, 2 GND&Lid, 3 Crystal, 4 GND&Lid

## 830055299
designator Y?, comment 25MHz  (value not drawn)
WE-XTAL Quartz Crystal, CFPX-180, 25MHz, +/-20ppm; Manufacturer Part Number: 830055299; Manufacturer: Wurth Elektronik; Frequency Stability: 30ppm; Load Capacitance: 18pF; Category: Crystals; Match Code: WE-XTAL; ComponentLink1Description: Website Link; ComponentLink1URL: https://www.we-online.com/redexpert/article/830055299?ad; ComponentLink2Description: Datasheet Link; ComponentLink2URL: https://www.we-online.com/redexpert/spec/830055299?ad; Mount: Surface Mount; Min Operating Temperature: -40°C; Max Operating Temperature: 85°C; Packaging: Tape and Reel; Case/Size Code: CFPX-180; Length: 3.2mm; Width: 2.5mm; Height: 0.8mm; Application: Processor, USB, 3G/4G/5G, Ethernet, Small Cell, PHY, PCI Express; Frequency: 25MHz; Frequency Tolerance: +/-20ppm
footprint WE-XTAL_CFPX-180
pins: 1 Crystal, 2 GND&Lid, 3 Crystal, 4 GND&Lid

## 830055474
designator Y?, comment 25MHz  (value not drawn)
WE-XTAL Quartz Crystal, CFPX-180, 25MHz, +/-50ppm; Manufacturer Part Number: 830055474; Manufacturer: Wurth Elektronik; Frequency Stability: 50ppm; Load Capacitance: 16pF; Category: Crystals; Match Code: WE-XTAL; ComponentLink1Description: Website Link; ComponentLink1URL: https://www.we-online.com/redexpert/article/830055474?ad; ComponentLink2Description: Datasheet Link; ComponentLink2URL: https://www.we-online.com/redexpert/spec/830055474?ad; Mount: Surface Mount; Min Operating Temperature: -40°C; Max Operating Temperature: 85°C; Packaging: Tape and Reel; Case/Size Code: CFPX-180; Length: 3.2mm; Width: 2.5mm; Height: 0.8mm; Application: Processor, USB, 3G/4G/5G, Ethernet, Small Cell, PHY, PCI Express; Frequency: 25MHz; Frequency Tolerance: +/-50ppm
footprint WE-XTAL_CFPX-180
pins: 1 Crystal, 2 GND&Lid, 3 Crystal, 4 GND&Lid

## 830055663
designator Y?, comment 8MHz  (value not drawn)
WE-XTAL Quartz Crystal, CFPX-104, 8MHz, +/-20ppm; Manufacturer Part Number: 830055663; Manufacturer: Wurth Elektronik; Frequency Stability: 30ppm; Load Capacitance: 18pF; Category: Crystals; Match Code: WE-XTAL; ComponentLink1Description: Website Link; ComponentLink1URL: https://www.we-online.com/redexpert/article/830055663?ad; ComponentLink2Description: Datasheet Link; ComponentLink2URL: https://www.we-online.com/redexpert/spec/830055663?ad; Mount: Surface Mount; Min Operating Temperature: -40°C; Max Operating Temperature: 85°C; Packaging: Tape and Reel; Case/Size Code: CFPX-104; Length: 5mm; Width: 3.2mm; Height: 1mm; Application: Processor, UART; Frequency: 8MHz; Frequency Tolerance: +/-20ppm
footprint WE-XTAL_CFPX-104
pins: 1 Crystal, 2 GND & Lid, 3 Crystal, 4 GND & Lid

## 830055901
designator Y?, comment 8MHz  (value not drawn)
WE-XTAL Quartz Crystal, CFPX-104, 8MHz, +/-20ppm; Manufacturer Part Number: 830055901; Manufacturer: Wurth Elektronik; Frequency Stability: 50ppm; Load Capacitance: 18pF; Category: Crystals; Match Code: WE-XTAL; ComponentLink1Description: Website Link; ComponentLink1URL: https://www.we-online.com/redexpert/article/830055901?ad; ComponentLink2Description: Datasheet Link; ComponentLink2URL: https://www.we-online.com/redexpert/spec/830055901?ad; Mount: Surface Mount; Min Operating Temperature: -20°C; Max Operating Temperature: 70°C; Packaging: Tape and Reel; Case/Size Code: CFPX-104; Length: 5mm; Width: 3.2mm; Height: 1mm; Application: Processor, UART; Frequency: 8MHz; Frequency Tolerance: +/-20ppm
footprint WE-XTAL_CFPX-104
pins: 1 Crystal, 2 GND & Lid, 3 Crystal, 4 GND & Lid

## 830055951
designator Y?, comment 16MHz  (value not drawn)
WE-XTAL Quartz Crystal, CFPX-180, 16MHz, +/-20ppm; Manufacturer Part Number: 830055951; Manufacturer: Wurth Elektronik; Frequency Stability: 30ppm; Load Capacitance: 18pF; Category: Crystals; Match Code: WE-XTAL; ComponentLink1Description: Website Link; ComponentLink1URL: https://www.we-online.com/redexpert/article/830055951?ad; ComponentLink2Description: Datasheet Link; ComponentLink2URL: https://www.we-online.com/redexpert/spec/830055951?ad; Mount: Surface Mount; Min Operating Temperature: -40°C; Max Operating Temperature: 85°C; Packaging: Tape and Reel; Case/Size Code: CFPX-180; Length: 3.2mm; Width: 2.5mm; Height: 0.8mm; Application: Processor, CAN, Bluetooth; Frequency: 16MHz; Frequency Tolerance: +/-20ppm
footprint WE-XTAL_CFPX-180
pins: 1 Crystal, 2 GND&Lid, 3 Crystal, 4 GND&Lid

## 830055962
designator Y?, comment 30MHz  (value not drawn)
WE-XTAL Quartz Crystal, CFPX-180, 30MHz, +/-10ppm; Manufacturer Part Number: 830055962; Manufacturer: Wurth Elektronik; Frequency Stability: 10ppm; Load Capacitance: 12pF; Category: Crystals; Match Code: WE-XTAL; ComponentLink1Description: Website Link; ComponentLink1URL: https://www.we-online.com/redexpert/article/830055962?ad; ComponentLink2Description: Datasheet Link; ComponentLink2URL: https://www.we-online.com/redexpert/spec/830055962?ad; Mount: Surface Mount; Min Operating Temperature: -10°C; Max Operating Temperature: 60°C; Packaging: Tape and Reel; Case/Size Code: CFPX-180; Length: 3.2mm; Width: 2.5mm; Height: 0.8mm; Application: Processor, USB; Frequency: 30MHz; Frequency Tolerance: +/-10ppm
footprint WE-XTAL_CFPX-180
pins: 1 Crystal, 2 GND&Lid, 3 Crystal, 4 GND&Lid

## 830055999
designator Y?, comment 12MHz  (value not drawn)
WE-XTAL Quartz Crystal, CFPX-104, 12MHz, +/-30ppm; Manufacturer Part Number: 830055999; Manufacturer: Wurth Elektronik; Frequency Stability: 30ppm; Load Capacitance: 18pF; Category: Crystals; Match Code: WE-XTAL; ComponentLink1Description: Website Link; ComponentLink1URL: https://www.we-online.com/redexpert/article/830055999?ad; ComponentLink2Description: Datasheet Link; ComponentLink2URL: https://www.we-online.com/redexpert/spec/830055999?ad; Mount: Surface Mount; Min Operating Temperature: -40°C; Max Operating Temperature: 85°C; Packaging: Tape and Reel; Case/Size Code: CFPX-104; Length: 5mm; Width: 3.2mm; Height: 1mm; Application: Processor, USB, CAN; Frequency: 12MHz; Frequency Tolerance: +/-30ppm
footprint WE-XTAL_CFPX-104
pins: 1 Crystal, 2 GND & Lid, 3 Crystal, 4 GND & Lid

## 830056346
designator Y?, comment 12MHz  (value not drawn)
WE-XTAL Quartz Crystal, CFPX-180, 12MHz, +/-30ppm; Manufacturer Part Number: 830056346; Manufacturer: Wurth Elektronik; Frequency Stability: 30ppm; Load Capacitance: 18pF; Category: Crystals; Match Code: WE-XTAL; ComponentLink1Description: Website Link; ComponentLink1URL: https://www.we-online.com/redexpert/article/830056346?ad; ComponentLink2Description: Datasheet Link; ComponentLink2URL: https://www.we-online.com/redexpert/spec/830056346?ad; Mount: Surface Mount; Min Operating Temperature: -40°C; Max Operating Temperature: 85°C; Packaging: Tape and Reel; Case/Size Code: CFPX-180; Length: 3.2mm; Width: 2.5mm; Height: 0.8mm; Application: Processor, USB, CAN; Frequency: 12MHz; Frequency Tolerance: +/-30ppm
footprint WE-XTAL_CFPX-180
pins: 1 Crystal, 2 GND&Lid, 3 Crystal, 4 GND&Lid

## 830056463
designator Y?, comment 25MHz  (value not drawn)
WE-XTAL Quartz Crystal, HC49/4HSMX, 25MHz, +/-30ppm; Manufacturer Part Number: 830056463; Manufacturer: Wurth Elektronik; Frequency Stability: 50ppm; Load Capacitance: 18pF; Category: Crystals; Match Code: WE-XTAL; ComponentLink1Description: Website Link; ComponentLink1URL: https://www.we-online.com/redexpert/article/830056463?ad; ComponentLink2Description: Datasheet Link; ComponentLink2URL: https://www.we-online.com/redexpert/spec/830056463?ad; Mount: Surface Mount; Min Operating Temperature: -40°C; Max Operating Temperature: 85°C; Packaging: Tape and Reel; Case/Size Code: HC49/4HSMX; Length: 12.4mm; Width: 4.7mm; Height: 4.5mm; Application: Processor, USB, 3G/4G/5G, Ethernet, Small Cell, PHY, PCI Express; Frequency: 25MHz; Frequency Tolerance: +/-30ppm
footprint WE-XTAL_HC49/4HSMX
pins: 1 OSC1, 2 OSC2

## 830056556
designator Y?, comment 12.5MHz  (value not drawn)
WE-XTAL Quartz Crystal, CFPX-104, 12.5MHz, +/-50ppm; Manufacturer Part Number: 830056556; Manufacturer: Wurth Elektronik; Frequency Stability: 50ppm; Load Capacitance: 18pF; Category: Crystals; Match Code: WE-XTAL; ComponentLink1Description: Website Link; ComponentLink1URL: https://www.we-online.com/redexpert/article/830056556?ad; ComponentLink2Description: Datasheet Link; ComponentLink2URL: https://www.we-online.com/redexpert/spec/830056556?ad; Mount: Surface Mount; Min Operating Temperature: -40°C; Max Operating Temperature: 85°C; Packaging: Tape and Reel; Case/Size Code: CFPX-104; Length: 5mm; Width: 3.2mm; Height: 1mm; Application: Processor; Frequency: 12.5MHz; Frequency Tolerance: +/-50ppm
footprint WE-XTAL_CFPX-104
pins: 1 Crystal, 2 GND & Lid, 3 Crystal, 4 GND & Lid

## 830056583
designator Y?, comment 10MHz  (value not drawn)
WE-XTAL Quartz Crystal, CFPX-104, 10MHz, +/-30ppm; Manufacturer Part Number: 830056583; Manufacturer: Wurth Elektronik; Frequency Stability: 30ppm; Load Capacitance: 12pF; Category: Crystals; Match Code: WE-XTAL; ComponentLink1Description: Website Link; ComponentLink1URL: https://www.we-online.com/redexpert/article/830056583?ad; ComponentLink2Description: Datasheet Link; ComponentLink2URL: https://www.we-online.com/redexpert/spec/830056583?ad; Mount: Surface Mount; Min Operating Temperature: -40°C; Max Operating Temperature: 85°C; Packaging: Tape and Reel; Case/Size Code: CFPX-104; Length: 5mm; Width: 3.2mm; Height: 1mm; Application: Processor, Ethernet; Frequency: 10MHz; Frequency Tolerance: +/-30ppm
footprint WE-XTAL_CFPX-104
pins: 1 Crystal, 2 GND & Lid, 3 Crystal, 4 GND & Lid

## 830056808
designator Y?, comment 20MHz  (value not drawn)
WE-XTAL Quartz Crystal, CFPX-104, 20MHz, +/-20ppm; Manufacturer Part Number: 830056808; Manufacturer: Wurth Elektronik; Frequency Stability: 30ppm; Load Capacitance: 18pF; Category: Crystals; Match Code: WE-XTAL; ComponentLink1Description: Website Link; ComponentLink1URL: https://www.we-online.com/redexpert/article/830056808?ad; ComponentLink2Description: Datasheet Link; ComponentLink2URL: https://www.we-online.com/redexpert/spec/830056808?ad; Mount: Surface Mount; Min Operating Temperature: -40°C; Max Operating Temperature: 85°C; Packaging: Tape and Reel; Case/Size Code: CFPX-104; Length: 5mm; Width: 3.2mm; Height: 1mm; Application: Processor, CAN, USB, Ethernet, Wi-Fi; Frequency: 20MHz; Frequency Tolerance: +/-20ppm
footprint WE-XTAL_CFPX-104
pins: 1 Crystal, 2 GND & Lid, 3 Crystal, 4 GND & Lid

## 830057824
designator Y?, comment 27MHz  (value not drawn)
WE-XTAL Quartz Crystal, CFPX-180, 27MHz, +/-20ppm; Manufacturer Part Number: 830057824; Manufacturer: Wurth Elektronik; Frequency Stability: 30ppm; Load Capacitance: 18pF; Category: Crystals; Match Code: WE-XTAL; ComponentLink1Description: Website Link; ComponentLink1URL: https://www.we-online.com/redexpert/article/830057824?ad; ComponentLink2Description: Datasheet Link; ComponentLink2URL: https://www.we-online.com/redexpert/spec/830057824?ad; Mount: Surface Mount; Min Operating Temperature: -40°C; Max Operating Temperature: 85°C; Packaging: Tape and Reel; Case/Size Code: CFPX-180; Length: 3.2mm; Width: 2.5mm; Height: 0.8mm; Application: Processor; Frequency: 27MHz; Frequency Tolerance: +/-20ppm
footprint WE-XTAL_CFPX-180
pins: 1 Crystal, 2 GND&Lid, 3 Crystal, 4 GND&Lid

## 830058124
designator Y?, comment 24MHz  (value not drawn)
WE-XTAL Quartz Crystal, CFPX-180, 24MHz, +/-20ppm; Manufacturer Part Number: 830058124; Manufacturer: Wurth Elektronik; Frequency Stability: 30ppm; Load Capacitance: 18pF; Category: Crystals; Match Code: WE-XTAL; ComponentLink1Description: Website Link; ComponentLink1URL: https://www.we-online.com/redexpert/article/830058124?ad; ComponentLink2Description: Datasheet Link; ComponentLink2URL: https://www.we-online.com/redexpert/spec/830058124?ad; Mount: Surface Mount; Min Operating Temperature: -40°C; Max Operating Temperature: 85°C; Packaging: Tape and Reel; Case/Size Code: CFPX-180; Length: 3.2mm; Width: 2.5mm; Height: 0.8mm; Application: Processor, USB, Bluetooth; Frequency: 24MHz; Frequency Tolerance: +/-20ppm
footprint WE-XTAL_CFPX-180
pins: 1 Crystal, 2 GND&Lid, 3 Crystal, 4 GND&Lid

## 830058149
designator Y?, comment 24MHz  (value not drawn)
WE-XTAL Quartz Crystal, CFPX-180, 24MHz, +/-10ppm; Manufacturer Part Number: 830058149; Manufacturer: Wurth Elektronik; Frequency Stability: 10ppm; Load Capacitance: 10pF; Category: Crystals; Match Code: WE-XTAL; ComponentLink1Description: Website Link; ComponentLink1URL: https://www.we-online.com/redexpert/article/830058149?ad; ComponentLink2Description: Datasheet Link; ComponentLink2URL: https://www.we-online.com/redexpert/spec/830058149?ad; Mount: Surface Mount; Min Operating Temperature: -20°C; Max Operating Temperature: 70°C; Packaging: Tape and Reel; Case/Size Code: CFPX-180; Length: 3.2mm; Width: 2.5mm; Height: 0.8mm; Application: Processor, USB, Bluetooth; Frequency: 24MHz; Frequency Tolerance: +/-10ppm
footprint WE-XTAL_CFPX-180
pins: 1 Crystal, 2 GND&Lid, 3 Crystal, 4 GND&Lid

## 830058383B
designator Y?, comment 16MHz  (value not drawn)
WE-XTAL Quartz Crystal, HC49/4H, 16MHz, +/-30ppm; Manufacturer Part Number: 830058383B; Manufacturer: Wurth Elektronik; Frequency Stability: 50ppm; Load Capacitance: 20pF; Category: Crystals; Match Code: WE-XTAL; ComponentLink1Description: Website Link; ComponentLink1URL: https://www.we-online.com/redexpert/article/830058383B?ad; ComponentLink2Description: Datasheet Link; ComponentLink2URL: https://www.we-online.com/redexpert/spec/830058383B?ad; Mount: Through Hole; Min Operating Temperature: -40°C; Max Operating Temperature: 85°C; Packaging: Bulk; Case/Size Code: HC49/4H; Length: 11.35mm; Width: 4.85mm; Height: 4mm; Application: Processor, CAN, Bluetooth; Frequency: 16MHz; Frequency Tolerance: +/-30ppm
footprint WE-XTAL_HC49/4H
pins: 1 OSC1, 2 OSC2